# EAGLE library part PCF2123 (library nxp_60_1_1)
SPI Real time clock/calendar AAL Eindhoven MK
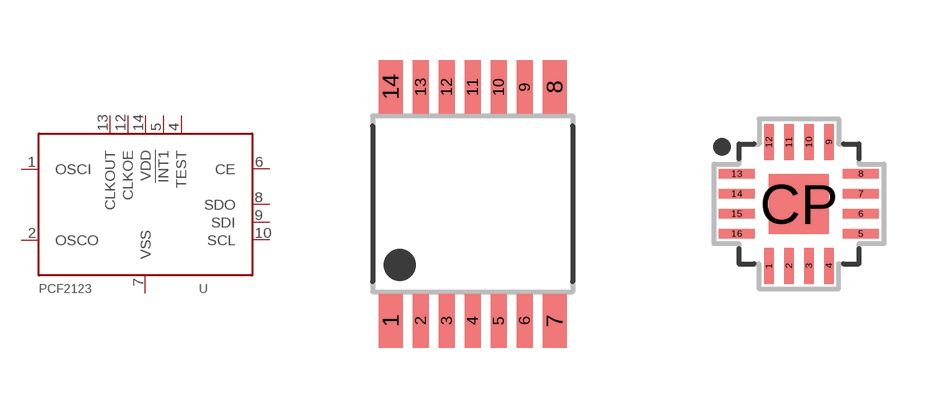
[diagram p68: symbol with the pads of SOT402-1; footprints SOT402-1, SOT758-1]

Designator prefix U

## PCF2123TS  [SOT402-1]
1  OSCI  pas
2  OSCO  pas
4  TEST  out
5  !INT1!  out
6  CE  in
7  VSS  pwr
8  SDO  out
9  SDI  in
10  SCL
12  CLKOE  in
13  CLKOUT  out
14  VDD  pwr

## PCF2123BS  [SOT758-1]
1  OSCO  pas
2  TEST  out
3  !INT1!  out
4  CE  in
5  VSS  pwr
8  SDO  out
9  SDI  in
10  SCL
11  CLKOE  in
12  CLKOUT  out
13  VDD  pwr
16  OSCI  pas

## Footprint SOT402-1 (pad centres in mm)
SOT402-1 TSSOP14: plastic thin shrink small outline package; 14 leads; body width 4.4 mm JEDEC: MO-153 IEC: ---
smd 0.6 x 1.35: 1 -2.05,-2.925; 7 2.05,-2.925; 8 2.05,2.925; 14 -2.05,2.925
smd 0.4 x 1.35: 2 -1.3,-2.925; 3 -0.65,-2.925; 4 0,-2.925; 5 0.65,-2.925; 6 1.3,-2.925; 9 1.3,2.925; 10 0.65,2.925; 11 0,2.925; 12 -0.65,2.925; 13 -1.3,2.925

## Footprint SOT758-1 (pad centres in mm)
SOT758-1 HVQFN16: plastic thermal enhanced very thin quad flat package; no leads; 16 terminals; body 3 x 3 x 0.85 mm JEDEC: MO-220 IEC: -- JEITA: --
smd 0.24 x 0.9: 1 -0.75,-1.55; 2 -0.25,-1.55; 3 0.25,-1.55; 4 0.75,-1.55; 9 0.75,1.55; 10 0.25,1.55; 11 -0.25,1.55; 12 -0.75,1.55
smd 0.9 x 0.24: 5 1.55,-0.75; 6 1.55,-0.25; 7 1.55,0.25; 8 1.55,0.75; 13 -1.55,0.75; 14 -1.55,0.25; 15 -1.55,-0.25; 16 -1.55,-0.75
smd 1.5 x 1.5: CP 0,0